# Altium integrated library 3362P-1-252LF.IntLib: 1 symbol
Pins are listed as number, name and electrical type; pins without a type are passive.

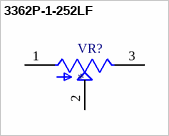
[diagram p0: symbol 3362P-1-252LF]

## 3362P-1-252LF
designator VR?
2.5 kOhms 0.5W, 1/2W PC Pins Through Hole Trimmer Potentiometer Cermet 1 Turn Top Adjustment; MF: Bourns; MP: 3362P-1-252LF; Check_prices: https://www.snapeda.com/parts/3362P-1-252LF/Bourns/view-part/1439689/?ref=eda; Purchase-URL: https://pricing.snapeda.com/search/part/3362P-1-252LF/?ref=eda; Price: None; SnapEDA_Link: https://www.snapeda.com/parts/3362P-1-252LF/Bourns/view-part/1439689/?ref=snap; Availability: Warning; Package: 3362P-1 Bourns Inc.; Value: *
footprint TRIM_3362P-1-252LF
pins: 1 CCW, 2 WIPER, 3 CW